# EAGLE library part THAT1512 (library that-corp)
Audio Preamplifier IC, Low Noise, High Performance
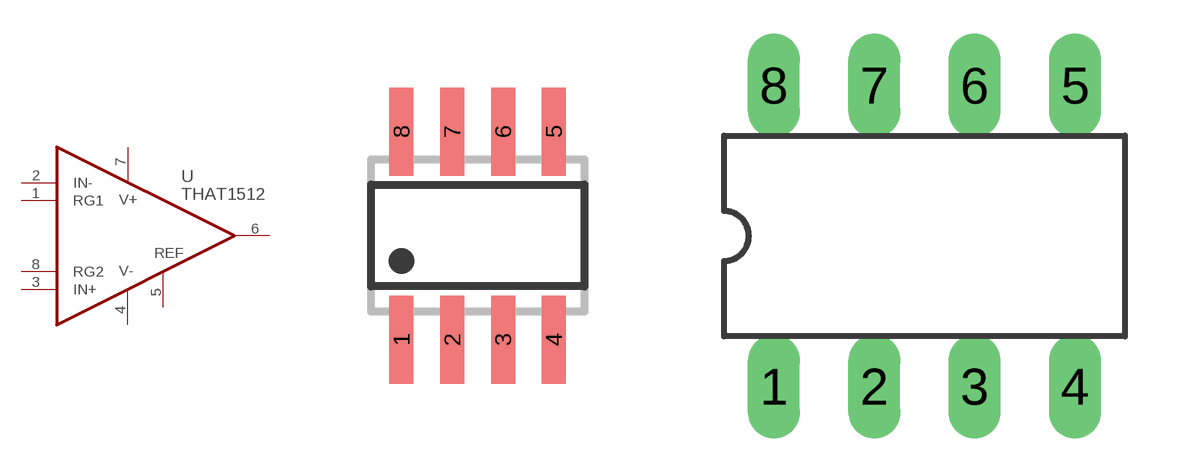
[diagram p0: symbol with the pads of SO08; footprints SO08, DIL08]

Designator prefix U

## THAT1512SO8-U  [SO08]
1  RG1  in
2  IN-  in
3  IN+  in
4  V-  pwr
5  REF  in
6  OUT  out
7  V+  pwr
8  RG2  in

## THAT1512PO8-U  [DIL08]
Pads as for SO08

## THAT1512W16-U  [SO16W]
2  RG1  in
4  IN-  in
5  IN+  in
7  V-  pwr
10  REF  in
11  OUT  out
13  V+  pwr
15  RG2  in

## THAT1512S14-U  [SO14]
3  RG1  in
4  IN-  in
5  IN+  in
6  V-  pwr
9  OUT  out
10  REF  in
11  V+  pwr
12  RG2  in

## Footprint SO08 (pad centres in mm)
SMALL OUTLINE INTEGRATED CIRCUIT body 3.9 mm/JEDEC MS-012AA
smd 0.6 x 2.2: 1 -1.905,-2.6; 2 -0.635,-2.6; 3 0.635,-2.6; 4 1.905,-2.6; 5 1.905,2.6; 6 0.635,2.6; 7 -0.635,2.6; 8 -1.905,2.6

## Footprint DIL08 (pad centres in mm)
Dual In Line package type P
drill 0.813 long: 1 -3.81,-3.81; 2 -1.27,-3.81; 3 1.27,-3.81; 4 3.81,-3.81; 5 3.81,3.81; 6 1.27,3.81; 7 -1.27,3.81; 8 -3.81,3.81

## Footprint SO16W (pad centres in mm)
SMALL OUTLINE INTEGRATED CIRCUIT wide body 7.5 mm/JEDEC MS-013AA
smd 0.6 x 2.2: 1 -4.445,-4.6; 2 -3.175,-4.6; 3 -1.905,-4.6; 4 -0.635,-4.6; 5 0.635,-4.6; 6 1.905,-4.6; 7 3.175,-4.6; 8 4.445,-4.6; 9 4.445,4.6; 10 3.175,4.6; 11 1.905,4.6; 12 0.635,4.6; 13 -0.635,4.6; 14 -1.905,4.6; 15 -3.175,4.6; 16 -4.445,4.6

## Footprint SO14 (pad centres in mm)
SMALL OUTLINE INTEGRATED CIRCUIT body 3.9 mm/JEDEC MS-012AC
smd 0.6 x 2.2: 1 -3.81,-2.6; 2 -2.54,-2.6; 3 -1.27,-2.6; 4 0,-2.6; 5 1.27,-2.6; 6 2.54,-2.6; 7 3.81,-2.6; 8 3.81,2.6; 9 2.54,2.6; 10 1.27,2.6; 11 0,2.6; 12 -1.27,2.6; 13 -2.54,2.6; 14 -3.81,2.6